# EAGLE library part 418317170906 (library Wurth_Elektronik_Electromechanic_Switchs_rev15b)
WS-PT 2.54 mm piano type compact THT Dip Switch with flat actuator, 6 Pole
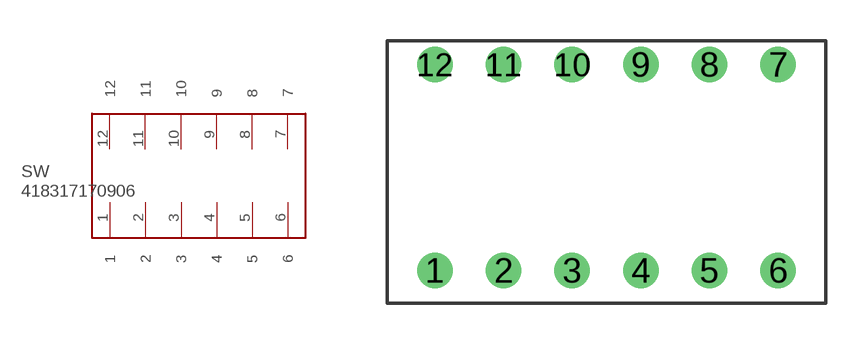
[diagram p103: symbol with the pads of 418317170906; footprint 418317170906]

Designator prefix SW

## 418317170906  [418317170906]
1  1
2  2
3  3
4  4
5  5
6  6
7  7
8  8
9  9
10  10
11  11
12  12

## Footprint 418317170906 (pad centres in mm)
WS-PT 2.54 mm piano type compact THT Dip Switch with flat actuator, 6 Pole
drill 0.8: 1 0,-3.81; 2 2.54,-3.81; 3 5.08,-3.81; 4 7.62,-3.81; 5 10.16,-3.81; 6 12.7,-3.81; 7 12.7,3.81; 8 10.16,3.81; 9 7.62,3.81; 10 5.08,3.81; 11 2.54,3.81; 12 0,3.81